# EAGLE library part CC1190 (library Pinoccio)
Texas Instruments CC1190 900MHz RF front-end
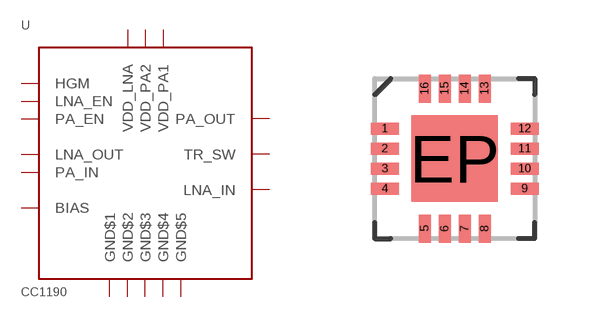
[diagram p30: symbol with the pads of QFN-16; footprint QFN-16]

Designator prefix -

## CC1190QFN-16  [QFN-16]
1  GND$1
2  PA_OUT
3  GND$2
4  TR_SW
5  LNA_IN
6  HGM
7  LNA_EN
8  PA_EN
9  GND$3
10  LNA_OUT
11  PA_IN
12  GND$4
13  VDD_LNA
14  BIAS
15  VDD_PA2
16  VDD_PA1
EP  GND$5

## Footprint QFN-16 (pad centres in mm)
smd 0.7 x 0.3: 1 -1.75,0.75; 2 -1.75,0.25; 3 -1.75,-0.25; 4 -1.75,-0.75; 9 1.75,-0.75; 10 1.75,-0.25; 11 1.75,0.25; 12 1.75,0.75
smd 0.3 x 0.7: 5 -0.75,-1.75; 6 -0.25,-1.75; 7 0.25,-1.75; 8 0.75,-1.75; 13 0.75,1.75; 14 0.25,1.75; 15 -0.25,1.75; 16 -0.75,1.75
smd 2.16 x 2.16: EP 0,0